# EAGLE library part 87264-06 (library untitled)
RECEPTACAL
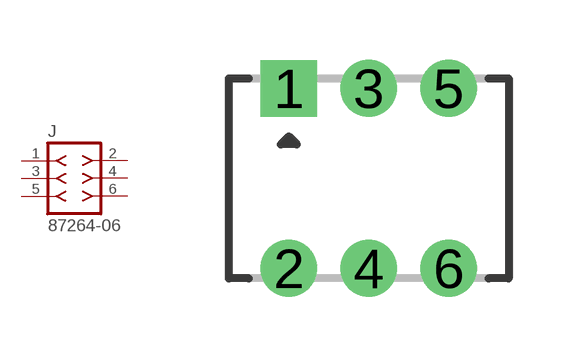
[diagram p227: symbol with the pads of 87264-06; footprint 87264-06]

Designator prefix J

## 87264-06  [87264-06]
1  1  pas
2  2  pas
3  3  pas
4  4  pas
5  5  pas
6  6  pas

## Footprint 87264-06 (pad centres in mm)
RECEPTACAL Dual Row, Side Entry
drill 0.914 square: 1 -2,2.25
drill 0.914 round: 2 -2,-2.25; 3 0,2.25; 4 0,-2.25; 5 2,2.25; 6 2,-2.25